# Altium footprint library SolderStation.PcbLib: 37 footprints (part 1 of 3)
Each footprint in its own frame and in the unit in brackets; x right, y up, seen from the top. Pads: shape width x height; smd on the part's side, far side on the other; paste and mask are expansions set on the pad; w line width, h text height; cw(c..) or ccw(c..) is an arc to the next point about the centre after c.
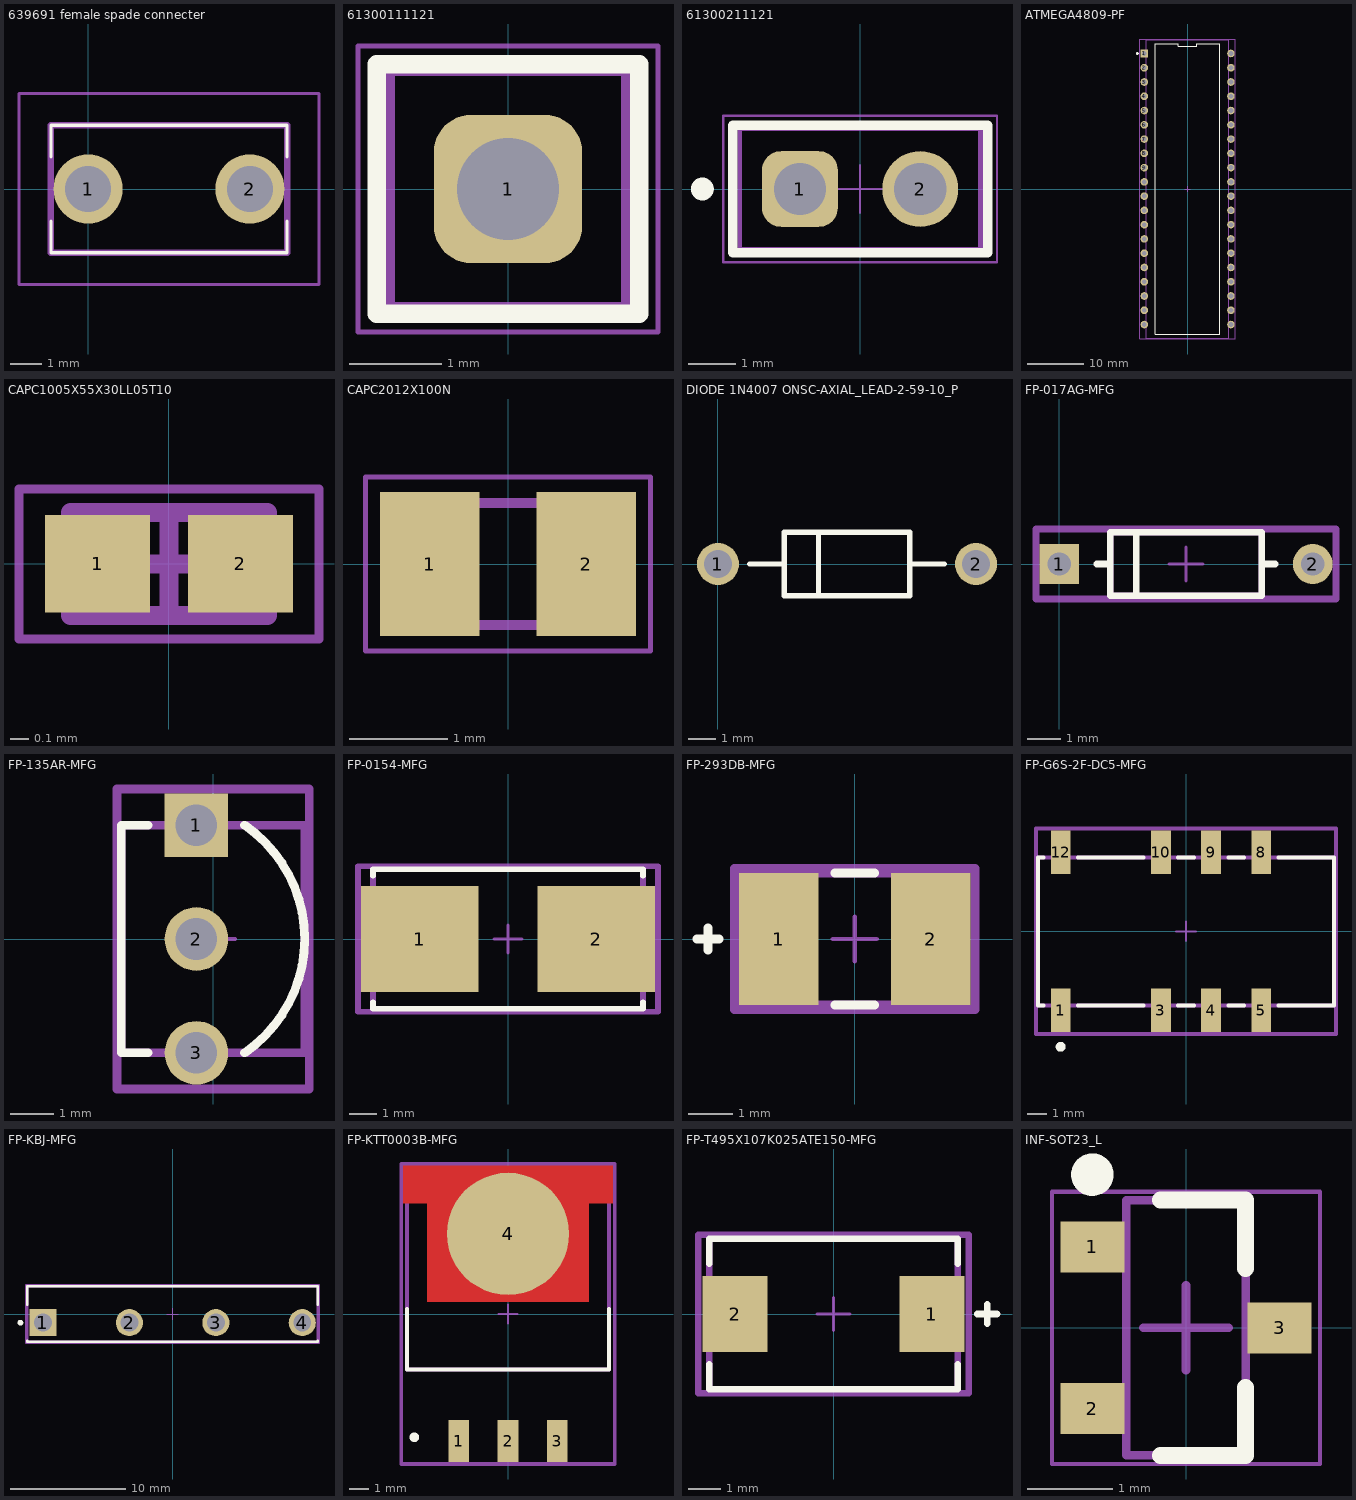
[diagram p0: the footprints below, top view; thin cyan lines are the x and y axes]

## 639691 female spade connecter [mm] "TE Connectivity teminal female THT PCB"
pads (2):
  round 2.175 hole 1.45: 1(0,0) 2(5.08,0)
Top Overlay:
  lines w0.1: -1.17,-1 -1.17,-2 6.25,-2 6.25,-1 ; -1.17,1 -1.17,2 6.25,2 6.25,1
Mechanical 15:
  lines w0.2: -1.17,-2 6.25,-2 6.25,2 -1.17,2 -1.17,-2
Bottom Assembly:
  lines w0.1: -2.17,-3 7.25,-3 7.25,3 -2.17,3 -2.17,-3
3D body "63969-1.stp": height 9.39, standoff -3.8, extent -1.219,-1.72 6.274,2.533

## 61300111121 [mm] "Pin Header, pitch 2.54 mm, THT, Vertical, single row, 1p"
height 8.54
pads (1):
  rrect50% 1.6x1.6 hole 1.1: 1(0,0)
Top Overlay:
  lines w0.2: -1.42,-1.345 1.42,-1.345 1.42,1.345 -1.42,1.345 -1.42,-1.345
Top 3D Body:
  lines w0.1: -1.27,-1.27 -1.27,1.27 1.27,1.27 1.27,-1.27 -1.27,-1.27
Top Courtyard:
  lines w0.05: -0.5,0 0.5,0 ; 0,-0.5 0,0.5 ; -1.62,-1.545 -1.62,1.545 1.62,1.545 1.62,-1.545 -1.62,-1.545
Top Designator:
  text ".Designator" at -4.998,-0.333 h1
Top Component Outline:
  lines w0.1: -1.27,-1.27 -1.27,1.27 1.27,1.27 1.27,-1.27 -1.27,-1.27
3D body "61300111121.stp": height 8.57, standoff -2.97, extent -1.27,-1.27 1.27,1.27

## 61300211121 [mm] "Pin Header, pitch 2.54 mm, THT, Vertical, single row, 2p"
height 8.54
pads (2):
  rrect50% 1.6x1.6 hole 1.1: 1(-1.27,0)
  round 1.6 hole 1.1: 2(1.27,0)
Top Overlay:
  circle w0.254: c-3.327,0 r0.114
  lines w0.2: -2.69,-1.345 2.69,-1.345 2.69,1.345 -2.69,1.345 -2.69,-1.345
Top 3D Body:
  lines w0.1: -2.54,-1.27 -2.54,1.27 2.54,1.27 2.54,-1.27 -2.54,-1.27
Top Courtyard:
  lines w0.05: -0.5,0 0.5,0 ; 0,-0.5 0,0.5 ; -2.89,-1.545 -2.89,1.545 2.89,1.545 2.89,-1.545 -2.89,-1.545
Top Component Outline:
  lines w0.1: -2.54,-1.27 -2.54,1.27 2.54,1.27 2.54,-1.27 -2.54,-1.27
3D body "61300211121.stp": height 8.57, standoff -2.97, extent -2.54,-1.27 2.54,1.27

## ATMEGA4809-PF [mm] "FP TH gebruikmaken van socket voor op PCB"
pads (40):
  rect 1.35x1.35 hole 0.85 paste-2539.97 mask+0: 1(-7.715,24.13)
  round 1.35 hole 0.85 paste-2539.97 mask+0: 2(-7.715,21.59) 3(-7.715,19.05) 4(-7.715,16.51) 5(-7.715,13.97) 6(-7.715,11.43) 7(-7.715,8.89) 8(-7.715,6.35) 9(-7.715,3.81) 10(-7.715,1.27) 11(-7.715,-1.27) 12(-7.715,-3.81) 13(-7.715,-6.35) 14(-7.715,-8.89) 15(-7.715,-11.43) 16(-7.715,-13.97) 17(-7.715,-16.51) 18(-7.715,-19.05) 19(-7.715,-21.59) 20(-7.715,-24.13) 21(7.715,-24.13) 22(7.715,-21.59) 23(7.715,-19.05) 24(7.715,-16.51) 25(7.715,-13.97) 26(7.715,-11.43) 27(7.715,-8.89) 28(7.715,-6.35) 29(7.715,-3.81) 30(7.715,-1.27) 31(7.715,1.27) 32(7.715,3.81) 33(7.715,6.35) 34(7.715,8.89) 35(7.715,11.43) 36(7.715,13.97) 37(7.715,16.51) 38(7.715,19.05) 39(7.715,21.59) 40(7.715,24.13)
Top Overlay:
  circle w0.25: c-8.94,24.13 r0.125
  lines w0.2: -5.763,-25.876 5.763,-25.876 5.763,25.876 1.646,25.876 1.646,25.376 -1.646,25.376 -1.646,25.876 -5.763,25.876 -5.763,-25.876
Top 3D Body:
  lines w0.2: -7.366,-26.607 -7.366,26.607 7.366,26.607 7.366,-26.607 -7.366,-26.607
Top Courtyard:
  lines w0.2: -8.49,-26.706 -8.49,26.706 8.49,26.706 8.49,-26.706 -8.49,-26.706
Top Assembly:
  lines w0.2: -8.49,-26.706 -8.49,26.706 8.49,26.706 8.49,-26.706 -8.49,-26.706
  text ".Designator" at 0,0.188 h1
Top Component Center:
  lines w0.1: -0.5,0 0.5,0 ; 0,-0.5 0,0.5
3D body "IC_Microchip_Technology_PIC18LF47K40-I-P_eec.STEP": height 0.25, standoff 0, extent -8.49,-26.706 8.49,26.706

## CAPC1005X55X30LL05T10 [mm] "Chip Capacitor, 2-Leads, Body 1.00x0.50mm, IPC High Density"
height 0.55
pads (2):
  rect 0.56x0.52 smd: 1(-0.38,0) 2(0.38,0)
Mechanical 13:
  lines w0.1: -0.525,-0.275 0.525,-0.275 0.525,0.275 -0.525,0.275 -0.525,-0.275
Mechanical 15:
  lines w0.05: -0.8,-0.4 0.8,-0.4 0.8,0.4 -0.8,0.4 -0.8,-0.4
  lines w0.1: -0.275,0 0.275,0 ; 0,-0.275 0,0.275
3D body: height 0.55, standoff 0, extent 0.225,-0.275 0.525,0.275
3D body: height 0.55, standoff 0, extent -0.525,-0.275 -0.225,0.275
3D body: height 0.55, standoff 0, extent -0.225,-0.275 0.225,0.275

## CAPC2012X100N [mm]
pads (2):
  rect 1.02x1.47 smd: 1(-0.8,0) 2(0.8,0)
Mechanical 13:
  lines w0.1: -1,-0.625 1,-0.625 1,0.625 -1,0.625 -1,-0.625
Mechanical 15:
  lines w0.05: -1.46,-0.89 1.46,-0.89 1.46,0.89 -1.46,0.89 -1.46,-0.89
3D body "C0805C103K1HACAUTO.stp": height 1, standoff 0, extent -1,-0.625 1,0.625

## DIODE 1N4007 ONSC-AXIAL_LEAD-2-59-10_P [mm] "AXIAL, 2-Leads, Diameter 2.35mm"
height 2.35
pads (2):
  round 1.55 hole 1.05: 1(0,0) 2(9.54,0)
Top Overlay:
  lines w0.2: 1.175,0 2.445,0 ; 3.715,-1.175 3.715,1.175 ; 7.095,0 8.365,0 ; 2.445,-1.175 2.445,1.175 7.095,1.175 7.095,-1.175 2.445,-1.175

## FP-017AG-MFG [mm]
pads (2):
  rect 1.2x1.2 hole 0.7 paste-2539.97 mask+0: 1(0,0)
  round 1.2 hole 0.7 paste-2539.97 mask+0: 2(7.626,0)
Top Overlay:
  lines w0.2: 1.133,0 1.533,0 ; 2.313,-0.855 2.313,0.855 ; 6.093,0 6.493,0 ; 1.533,-0.955 6.093,-0.955 6.093,0.955 1.533,0.955 1.533,-0.955
Top 3D Body:
  lines w0.2: 1.533,-0.955 6.093,-0.955 6.093,0.955 1.533,0.955 1.533,-0.955
Top Courtyard:
  lines w0.2: -0.7,-1.055 8.326,-1.055 8.326,1.055 -0.7,1.055 -0.7,-1.055
Top Assembly:
  lines w0.2: -0.7,-1.055 8.326,-1.055 8.326,1.055 -0.7,1.055 -0.7,-1.055
Top Component Center:
  lines w0.1: 3.313,0 4.313,0 ; 3.813,-0.5 3.813,0.5
3D body "Diode_ON_Semiconductor_1N5245BTR_eec.STEP": height 0.25, standoff 0, extent -0.7,-1.055 8.326,1.055

## FP-135AR-MFG [mm]
pads (3):
  rect 1.45x1.45 hole 0.95 paste-2539.97 mask+0: 1(-0.38,2.6)
  round 1.45 hole 0.95 paste-2539.97 mask+0: 2(-0.38,0) 3(-0.38,-2.6)
Top Overlay:
  lines w0.2: -1.48,-2.6 -2.095,-2.6 -2.095,2.6 -1.48,2.6 ; 0.72,-2.6 ccw(c-1.058,0) 0.72,2.6
Top 3D Body:
  lines w0.2: -2.095,-2.6 2.095,-2.6 2.095,2.6 -2.095,2.6 -2.095,-2.6
Top Courtyard:
  lines w0.2: -2.195,-3.425 2.195,-3.425 2.195,3.425 -2.195,3.425 -2.195,-3.425
Top Assembly:
  lines w0.2: -2.195,-3.425 2.195,-3.425 2.195,3.425 -2.195,3.425 -2.195,-3.425
  text ".Designator" at 0,-0.001 h1
Top Component Center:
  lines w0.1: -0.5,0 0.5,0 ; 0,-0.5 0,0.5
3D body "Trans_onsemi_KSA733YTA_eec.STEP": height 0.25, standoff 0, extent -2.195,-3.425 2.195,3.425

## FP-0154-MFG [mm]
pads (2):
  rect 4.24x3.81 smd paste+0 mask+0: 1(-3.185,0) 2(3.185,0)
Top Overlay:
  lines w0.2: -4.865,-2.28 -4.865,-2.515 4.865,-2.515 4.865,-2.28 ; -4.865,2.28 -4.865,2.515 4.865,2.515 4.865,2.28
Top 3D Body:
  lines w0.2: -4.865,-2.515 -4.865,2.515 4.865,2.515 4.865,-2.515 -4.865,-2.515
Top Courtyard:
  lines w0.2: -5.405,-2.615 -5.405,2.615 5.405,2.615 5.405,-2.615 -5.405,-2.615
Top Assembly:
  lines w0.2: -5.405,-2.615 -5.405,2.615 5.405,2.615 5.405,-2.615 -5.405,-2.615
  text ".Designator" at 0,0.188 h1
Top Component Center:
  lines w0.1: -0.5,0 0.5,0 ; 0,-0.5 0,0.5
3D body "Fuse_Littelfuse_0154004_DR_eec.STEP": height 0.25, standoff 0, extent -5.405,-2.615 5.405,2.615

## FP-293DB-MFG [mm]
pads (2):
  rect 1.8x3 smd paste+0 mask+0: 1(-1.725,0) 2(1.725,0)
Top Overlay:
  lines w0.2: -3.579,0 -3.079,0 ; -3.329,-0.25 -3.329,0.25 ; -0.45,-1.5 0.45,-1.5 ; -0.45,1.5 0.45,1.5
Top 3D Body:
  lines w0.2: -1.85,-1.5 1.85,-1.5 1.85,1.5 -1.85,1.5 -1.85,-1.5
Top Courtyard:
  lines w0.2: -2.725,-1.6 2.725,-1.6 2.725,1.6 -2.725,1.6 -2.725,-1.6
Top Assembly:
  lines w0.2: -2.725,-1.6 2.725,-1.6 2.725,1.6 -2.725,1.6 -2.725,-1.6
  text ".Designator" at 0.127,0.569 h1
Top Component Center:
  lines w0.1: -0.5,0 0.5,0 ; 0,-0.5 0,0.5
3D body "Cap_Vishay_293D105X9035B2TE3_eec.STEP": height 0.25, standoff 0, extent -2.725,-1.6 2.725,1.6

## FP-G6S-2F-DC5-MFG [mm]
pads (8):
  rect 1x2.2 smd paste+0 mask+0: 1(-6.35,-4) 3(-1.27,-4) 4(1.27,-4) 5(3.81,-4) 8(3.81,4) 9(1.27,4) 10(-1.27,4) 12(-6.35,4)
Top Overlay:
  circle w0.25: c-6.35,-5.85 r0.125
  lines w0.2: -7.225,-3.75 -7.5,-3.75 -7.5,3.75 -7.225,3.75 ; -5.475,-3.75 -2.145,-3.75 ; -5.475,3.75 -2.145,3.75 ; -0.395,-3.75 0.395,-3.75 ; -0.395,3.75 0.395,3.75 ; 2.145,-3.75 2.935,-3.75 ; 2.145,3.75 2.935,3.75 ; 4.685,-3.75 7.5,-3.75 7.5,3.75 4.685,3.75
Top 3D Body:
  lines w0.2: -7.5,-3.75 7.5,-3.75 7.5,3.75 -7.5,3.75 -7.5,-3.75
Top Courtyard:
  lines w0.2: -7.6,-5.2 7.6,-5.2 7.6,5.2 -7.6,5.2 -7.6,-5.2
Top Assembly:
  lines w0.2: -7.6,-5.2 7.6,-5.2 7.6,5.2 -7.6,5.2 -7.6,-5.2
  text ".Designator" at 0,-0.001 h1
Top Component Center:
  lines w0.1: -0.5,0 0.5,0 ; 0,-0.5 0,0.5
3D body "Relay_Omron_G6S-2F-DC5_eec.STEP": height 0.25, standoff 0, extent -7.6,-5.2 7.6,5.2

## FP-KBJ-MFG [mm]
pads (4):
  rect 2.35x2.35 hole 1.55 paste-2539.97 mask+0: 1(-11.25,-0.75)
  round 2.35 hole 1.55 paste-2539.97 mask+0: 2(-3.75,-0.75) 3(3.75,-0.75) 4(11.25,-0.75)
Top Overlay:
  circle w0.25: c-13.2,-0.75 r0.125
  lines w0.2: -12.6,-2.3 -12.6,-2.4 12.6,-2.4 12.6,-2.3 ; -12.6,0.8 -12.6,2.4 12.6,2.4 12.6,0.8
Top 3D Body:
  lines w0.2: -12.6,-2.4 -12.6,2.4 12.6,2.4 12.6,-2.4 -12.6,-2.4
Top Courtyard:
  lines w0.2: -12.7,-2.5 -12.7,2.5 12.7,2.5 12.7,-2.5 -12.7,-2.5
Top Assembly:
  lines w0.2: -12.7,-2.5 -12.7,2.5 12.7,2.5 12.7,-2.5 -12.7,-2.5
Top Component Center:
  lines w0.1: -0.5,0 0.5,0 ; 0,-0.5 0,0.5
3D body "Diode_Diodes_KBJ608G_eec.STEP": height 0.25, standoff 0, extent -12.7,-2.5 12.7,2.5

## FP-KTT0003B-MFG [mm]
pads (4):
  rect 1.07x2.16 smd paste+0 mask+0: 1(-2.54,-6.545) 2(0,-6.545) 3(2.54,-6.545)
  round 6.291 smd paste+0 mask+0: 4(0,4.13)
Top Layer:
  region: 5.4,7.625 -5.4,7.625 -5.4,5.715 -4.165,5.715 -4.165,0.635 4.165,0.635 4.165,5.715 5.4,5.715
Top Overlay:
  circle w0.25: c-4.826,-6.35 r0.125
  lines w0.2: -5.205,0.26 -5.205,-2.86 5.205,-2.86 5.205,0.26
Top 3D Body:
  lines w0.2: -5.205,-2.86 -5.205,6.03 5.205,6.03 5.205,-2.86 -5.205,-2.86
Top Courtyard:
  lines w0.2: -5.5,-7.725 -5.5,7.725 5.5,7.725 5.5,-7.725 -5.5,-7.725
Top Assembly:
  lines w0.2: -5.5,-7.725 -5.5,7.725 5.5,7.725 5.5,-7.725 -5.5,-7.725
  text ".Designator" at 0,-0.001 h1
Top Component Center:
  lines w0.1: -0.5,0 0.5,0 ; 0,-0.5 0,0.5
3D body "IC_Texas_Instruments_LM3940ISX-3_3-NOPB_eec.STEP": height 0.25, standoff 0, extent -5.5,-7.725 5.5,7.725

## FP-T495X107K025ATE150-MFG [mm]
pads (2):
  rect 1.99x2.33 smd paste+0 mask+0: 1(3.01,0) 2(-3.01,0)
Top Overlay:
  lines w0.2: -3.8,-1.54 -3.8,-2.3 3.8,-2.3 3.8,-1.54 ; -3.8,1.54 -3.8,2.3 3.8,2.3 3.8,1.54 ; 4.4,0 5,0 ; 4.7,-0.3 4.7,0.3
Top 3D Body:
  lines w0.2: -3.8,-2.3 -3.8,2.3 3.8,2.3 3.8,-2.3 -3.8,-2.3
Top Courtyard:
  lines w0.2: -4.13,-2.42 -4.13,2.42 4.13,2.42 4.13,-2.42 -4.13,-2.42
Top Assembly:
  lines w0.2: -4.13,-2.42 -4.13,2.42 4.13,2.42 4.13,-2.42 -4.13,-2.42
  text ".Designator" at 0,-0.001 h1
Top Component Center:
  lines w0.1: -0.5,0 0.5,0 ; 0,-0.5 0,0.5
3D body "Cap_KEMET_T495X107K025ATE150_eec.STEP": height 0.25, standoff 0, extent -4.13,-2.42 4.13,2.42

## INF-SOT23_L [mm] "SOT23, 3-Leads, Body 2.9x1.3 mm, Pitch 0.95 mm, IPC High Density"
height 1.1
pads (3):
  rect 0.75x0.6 smd: 1(-1.1,0.95) 2(-1.1,-0.95) 3(1.1,0)
Top Overlay:
  circle w0.25: c-1.1,1.8 r0.125
  lines w0.2: -0.3,-1.5 0.7,-1.5 0.7,-0.7 ; -0.3,1.5 0.7,1.5 0.7,0.7
Mechanical 13:
  lines w0.1: -0.7,-1.5 -0.7,1.5 0.7,1.5 0.7,-1.5 -0.7,-1.5
Mechanical 15:
  lines w0.05: -1.575,-1.6 -1.575,1.6 1.575,1.6 1.575,-1.6 -1.575,-1.6
  lines w0.1: -0.5,0 0.5,0 ; 0,-0.5 0,0.5
3D body: height 1.1, standoff 0.1, extent -0.7,-1.5 0.7,1.5